# Altium schematic symbol library Schlib1.SchLib: 6 symbols
Pins are listed as number, name and electrical type; pins without a type are passive.

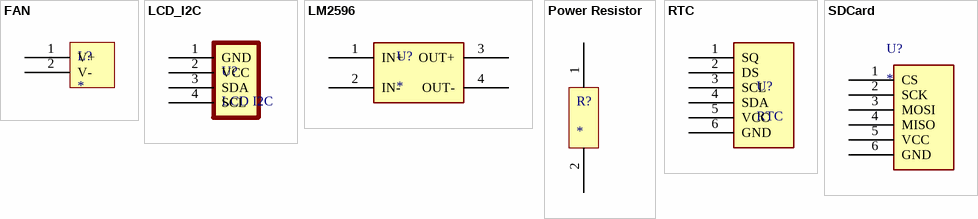
[diagram p0: symbols FAN to SDCard]

## FAN
designator L?
footprint FAN
pins: 1 V+, 2 V-

## LCD_I2C
designator U?, comment LCD I2C
footprint LCD_I2C
pins: 1 GND, 2 VCC, 3 SDA, 4 SCL

## LM2596
designator U?
footprint LM2596 (LM2596 module)
pins: 1 IN+, 2 IN-, 3 OUT+, 4 OUT-

## Power Resistor
designator R?
footprint Power Resistor
pins: 1, 2

## RTC
designator U?
footprint RTC
pins: 1 SQ, 2 DS, 3 SCL, 4 SDA, 5 VCC, 6 GND

## SDCard
designator U?
footprint SDCard (SDCard Module)
pins: 1 CS, 2 SCK, 3 MOSI, 4 MISO, 5 VCC, 6 GND